# EAGLE library part DB9PIN (library mECustom)
DB9 Standard Connector Package: Standard DB9 Pinout Pads
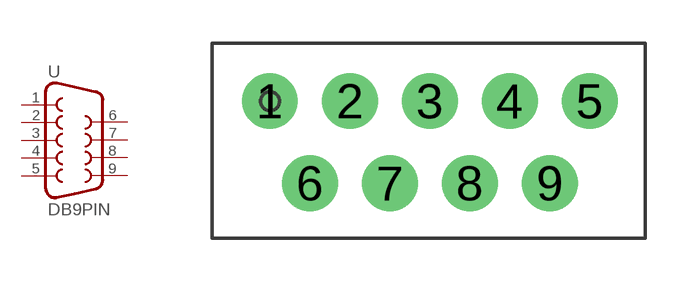
[diagram p7: symbol with the pads of DB9PIN; footprint DB9PIN]

Designator prefix -

## DB9PIN  [DB9PIN]
1  1CD  pas
2  2RX  pas
3  3TX  pas
4  4DTR  pas
5  5GND  pas
6  6DSR  pas
7  7RTS  pas
8  8CTS  pas
9  9RI  pas

## Footprint DB9PIN (pad centres in mm)
drill 1 pad 1.93: 1 -5.08,1.27; 2 -2.31,1.27; 3 0.46,1.27; 4 3.23,1.27; 5 6,1.27; 6 -3.695,-1.57; 7 -0.925,-1.57; 8 1.845,-1.57; 9 4.615,-1.57